# Altium footprint library AD第一课库.PcbLib: 5 footprints
Each footprint in its own frame and in the unit in brackets; x right, y up, seen from the top. Pads: shape width x height; smd on the part's side, far side on the other; paste and mask are expansions set on the pad; w line width, h text height; cw(c..) or ccw(c..) is an arc to the next point about the centre after c.
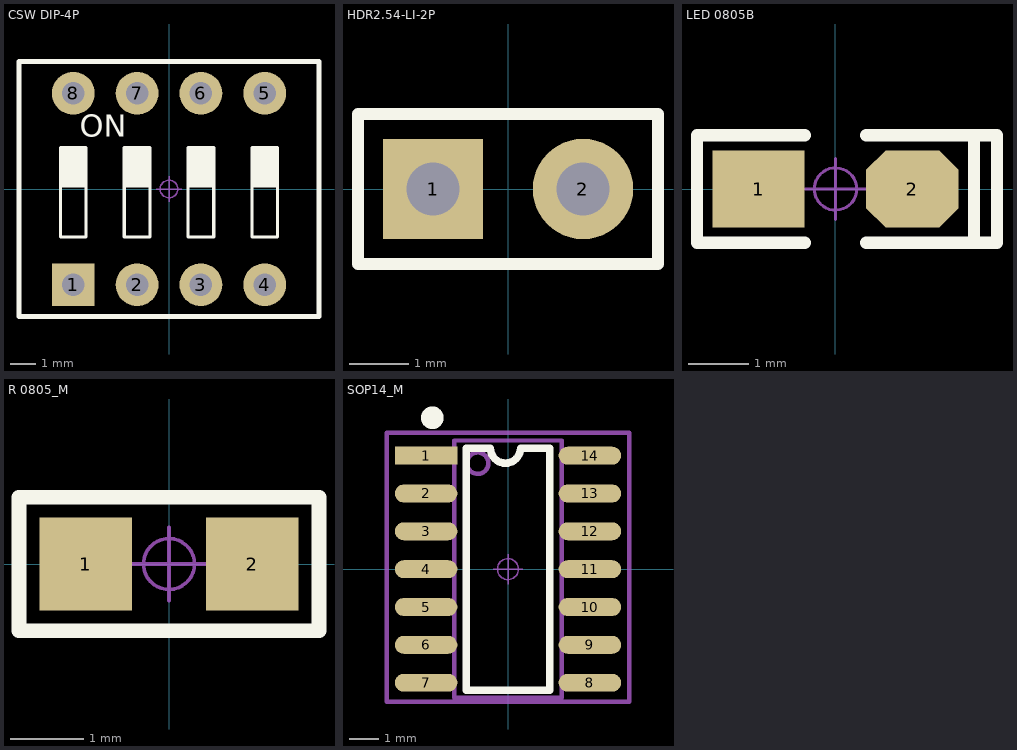
[diagram p0: the footprints below, top view; thin cyan lines are the x and y axes]

## CSW DIP-4P [mm] "11.7*9.9*7mm"
height 2.54
pads (8):
  rect 1.7x1.7 hole 0.9: 1(-3.81,-3.81)
  round 1.7 hole 0.9: 2(-1.27,-3.81) 3(1.27,-3.81) 4(3.81,-3.81) 5(3.81,3.81) 6(1.27,3.81) 7(-1.27,3.81) 8(-3.81,3.81)
Top Overlay:
  rectangle: 3.302,0.127 4.318,1.651
  rectangle: 0.762,0.127 1.778,1.651
  rectangle: -1.778,0.127 -0.762,1.651
  rectangle: -4.318,0.127 -3.302,1.651
  lines w0.127: -4.318,0.127 -3.302,0.127 ; -1.778,0.127 -0.762,0.127 ; 0.762,0.127 1.778,0.127 ; 3.302,0.127 4.318,0.127 ; -4.318,-1.905 -3.302,-1.905 -3.302,1.651 -4.318,1.651 -4.318,-1.905 ; -1.778,-1.905 -0.762,-1.905 -0.762,1.651 -1.778,1.651 -1.778,-1.905 ; 0.762,-1.905 1.778,-1.905 1.778,1.651 0.762,1.651 0.762,-1.905 ; 3.302,-1.905 4.318,-1.905 4.318,1.651 3.302,1.651 3.302,-1.905
  lines w0.2: -5.969,-5.08 5.969,-5.08 5.969,5.08 -5.969,5.08 -5.969,-5.08
  text "ON" at -3.556,1.778 h1.52
Mechanical 15:
  circle w0.05: c0,0 r0.35
  lines w0.05: -0.5,0 0.5,0 ; 0,-0.5 0,0.5
3D body "CSW DIP-4P.STEP": height 6.65, standoff -3.15, extent -5.86,-4.95 5.86,4.95

## HDR2.54-LI-2P [mm] "排针，2脚"
height 2.54
pads (2):
  rect 1.7x1.7 hole 0.9: 1(-1.27,0)
  round 1.7 hole 0.9: 2(1.27,0)
Top Overlay:
  lines w0.2: -2.54,-1.27 2.54,-1.27 2.54,1.27 -2.54,1.27 -2.54,-1.27
3D body "HDR2.54-1P.STEP": height 8.5, standoff -3, extent -2.54,-1.27 0,1.27
3D body "HDR2.54-1P.STEP": height 8.5, standoff -3, extent 0,-1.27 2.54,1.27

## LED 0805B [mil] "蓝色0805LED"
height 100
pads (2):
  rect 60x50 smd: 1(-50,0)
  oct 60x50 smd: 2(50,0)
Top Overlay:
  lines w8: -20,-35 -90,-35 -90,35 -20,35 ; 20,-35 105,-35 105,35 20,35 ; 90,-35 90,35
Mechanical 15:
  circle w1.97: c0,0 r13.78
  lines w1.97: -19.68,0 19.68,0 ; 0,-19.68 0,19.68
3D body "LED 0805-B.STEP": height 26.33, standoff -0.16, extent -39.37,-24.65 39.37,24.65
3D body "LED 0805玻璃罩.STEP": height 31.69, standoff 12.01, extent -29.49,-24.65 29.49,24.65

## R 0805_M [mil] "1/8W贴片电阻"
height 100
pads (2):
  rect 50x50 smd: 1(-45,0) 2(45,0)
Top Overlay:
  lines w8: -81,-36 -81,36 81,36 81,-36 -81,-36
Mechanical 15:
  circle w1.97: c0,0 r13.78
  lines w1.97: -19.68,0 19.68,0 ; 0,-19.68 0,19.68
3D body "R 0805.STEP": height 19.72, standoff -0.24, extent -39.37,-24.6 39.37,24.61

## SOP14_M [mm] "8.7*6.2*1.8mm（长宽高）"
height 2.54
pads (14):
  rect 2.1x0.6 smd: 1(-2.75,3.81)
  oval 2.1x0.6 smd: 2(-2.75,2.54) 3(-2.75,1.27) 4(-2.75,0) 5(-2.75,-1.27) 6(-2.75,-2.54) 7(-2.75,-3.81) 8(2.75,-3.81) 9(2.75,-2.54) 10(2.75,-1.27) 11(2.75,0) 12(2.75,1.27) 13(2.75,2.54) 14(2.75,3.81)
Top Overlay:
  circle w0.508: c-2.54,5.08 r0.127
  lines w0.254: -1.397,-4.064 -1.397,4.064 -0.593,4.064 ccw(c-0.085,4.064) -0.085,3.556 ccw(c-0.085,4.064) 0.423,4.064 1.397,4.064 1.397,-4.064 -1.397,-4.064
Mechanical 13:
  circle w0.15: c-1.016,3.556 r0.359
  lines w0.15: -1.8,-4.318 1.8,-4.318 1.8,4.318 -1.8,4.318 -1.8,-4.318
Mechanical 15:
  circle w0.05: c0,0 r0.35
  lines w0.05: -0.5,0 0.5,0 ; 0,-0.5 0,0.5
  lines w0.15: -4.064,-4.445 -4.064,4.572 4.064,4.572 4.064,-4.445 -4.064,-4.445
3D body "SOP14.STEP": height 1.9, standoff 0, extent -3.003,-4.35 3.003,4.35